# Altium schematic symbol library TUSB319.SchLib: 1 symbol
Pins are listed as number, name and electrical type; pins without a type are passive.

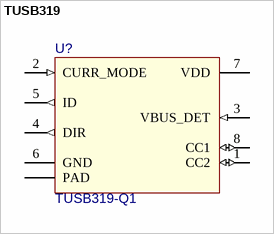
[diagram p0: symbol TUSB319]

## TUSB319
designator U?, comment TUSB319-Q1
TUSB319-Q1 USB Type-C DFP Port Controller; Value: TUSB319-Q1
footprint PWSON-8 (Footprint not found)
pins: 1 CC2 (io) "Type-C configuration channel signal 2", 2 CURR_MODE (in) "Advertise VBUS current. This 3-level input is used to control Type-C current advertisement", 3 VBUS_DET (in), 4 DIR (out), 5 ID (out) "Open drain output; asserted low when the CC pins detect device attachment", 6 GND (power), 7 VDD (power) "3.8-V to 5-V power", 8 CC1 (io) "Type-C configuration channel signal 1", 9 PAD (power)